# Altium schematic symbol library TJA1081TS-TSSOP16.SchLib: 1 symbol
Pins are listed as number, name and electrical type; pins without a type are passive.

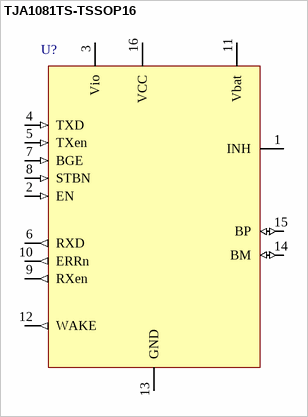
[diagram p0: symbol TJA1081TS-TSSOP16]

## TJA1081TS-TSSOP16
designator U?  (value not drawn)
pins: 1 INH (oe), 2 EN (in), 3 Vio (power), 4 TXD (in), 5 TXen (in), 6 RXD (out), 7 BGE (in), 8 STBN (in), 9 RXen (out), 10 ERRn (out), 11 Vbat (power), 12 WAKE (out), 13 GND (power), 14 BM (io), 15 BP (io), 16 VCC (power)